# EAGLE library part USB-MICROB-M6 (library neopixelwordclock)
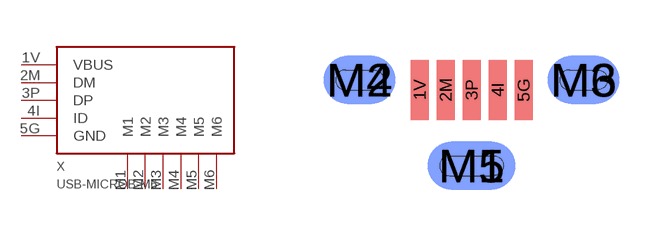
[diagram p8: symbol with the pads of USBMICROBVERT-1051330011; footprint USBMICROBVERT-1051330011]

Designator prefix X

## USB-MICROB-M6-1051330011  [USBMICROBVERT-1051330011]
1V  VBUS
2M  DM
3P  DP
4I  ID
5G  GND
M1  M1
M2  M2
M3  M3
M4  M4
M5  M5
M6  M6

## Footprint USBMICROBVERT-1051330011 (pad centres in mm)
smd 0.45 x 1.5: 1V -1.3,0.825; 2M -0.65,0.825; 3P 0,0.825; 4I 0.65,0.825; 5G 1.3,0.825
smd 2.2 x 1.2: M1 0,-1.075
smd 1.8 x 1.2: M2 -2.8,1.075; M3 2.8,1.075
smd 1.8 x 1.2 bottom: M4 -2.8,1.075; M6 2.8,1.075
smd 2.2 x 1.2 bottom: M5 0,-1.075